# Altium footprint library TLVM23615RDNR.PcbLib: 1 footprints
Each footprint in its own frame and in the unit in brackets; x right, y up, seen from the top. Pads: shape width x height; smd on the part's side, far side on the other; paste and mask are expansions set on the pad; w line width, h text height; cw(c..) or ccw(c..) is an arc to the next point about the centre after c.
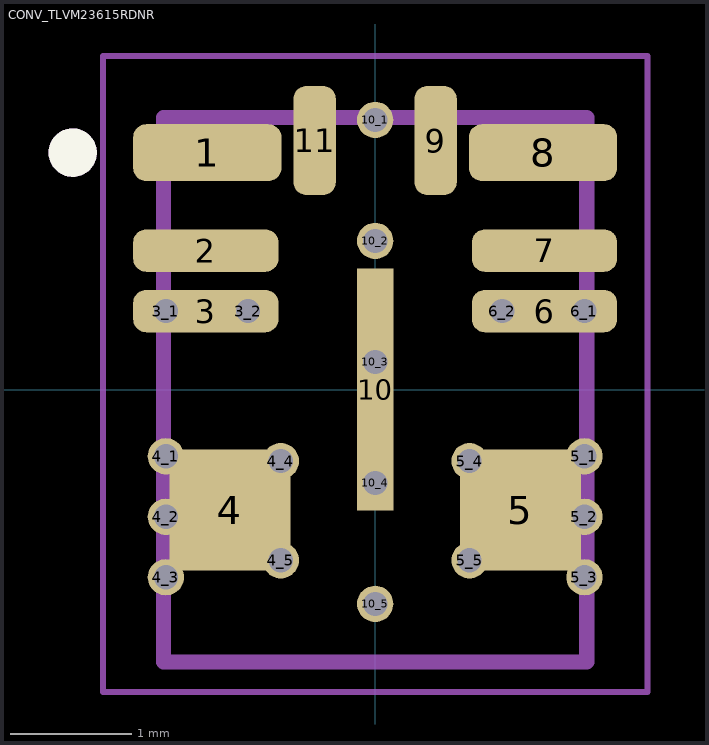
[diagram p0: the footprint, top view; thin cyan lines are the x and y axes]

## CONV_TLVM23615RDNR [mm]
pads (30):
  rrect45% 1.225x0.47 smd paste-2 mask+0: 1(-1.388,1.96) 8(1.388,1.96)
  rrect60% 1.2x0.35 smd paste-2 mask+0: 2(-1.4,1.15) 3(-1.4,0.65) 6(1.4,0.65) 7(1.4,1.15)
  round 0.3 hole 0.2 mask+0: 3_1(-1.729,0.65) 3_2(-1.05,0.65) 4_1(-1.73,-0.55) 4_2(-1.73,-1.05) 4_3(-1.73,-1.55) 4_4(-0.78,-0.59) 4_5(-0.78,-1.41) 5_1(1.73,-0.55) 5_2(1.73,-1.05) 5_3(1.73,-1.55) 5_4(0.78,-0.59) 5_5(0.78,-1.41) 6_1(1.729,0.65) 6_2(1.05,0.65) 10_1(0,2.23) 10_2(0,1.23) 10_3(0,0.23) 10_4(0,-0.77) 10_5(0,-1.77)
  rect 1x1 smd paste-1 mask+0: 4(-1.2,-0.995) 5(1.2,-0.995)
  rrect60% 0.35x0.9 smd paste-1 mask+0: 9(0.5,2.06) 11(-0.5,2.06)
  rect 0.3x2 smd paste-2 mask+0: 10(0,0)
Top Overlay:
  circle w0.2: c-2.5,1.96 r0.1
Mechanical 13:
  circle w0.2: c-2.5,1.96 r0.1
  lines w0.127: -1.75,-2.25 -1.75,2.25 1.75,2.25 1.75,-2.25 -1.75,-2.25
Mechanical 15:
  lines w0.05: -2.25,-2.5 -2.25,2.76 2.25,2.76 2.25,-2.5 -2.25,-2.5
3D body "step_temp.STEP": height 2.1, standoff 0, extent -1.75,-2.25 1.75,2.25